# Altium footprint library PcbLib1.PcbLib: 42 footprints (part 2 of 3)
Each footprint in its own frame and in the unit in brackets; x right, y up, seen from the top. Pads: shape width x height; smd on the part's side, far side on the other; paste and mask are expansions set on the pad; w line width, h text height; cw(c..) or ccw(c..) is an arc to the next point about the centre after c.
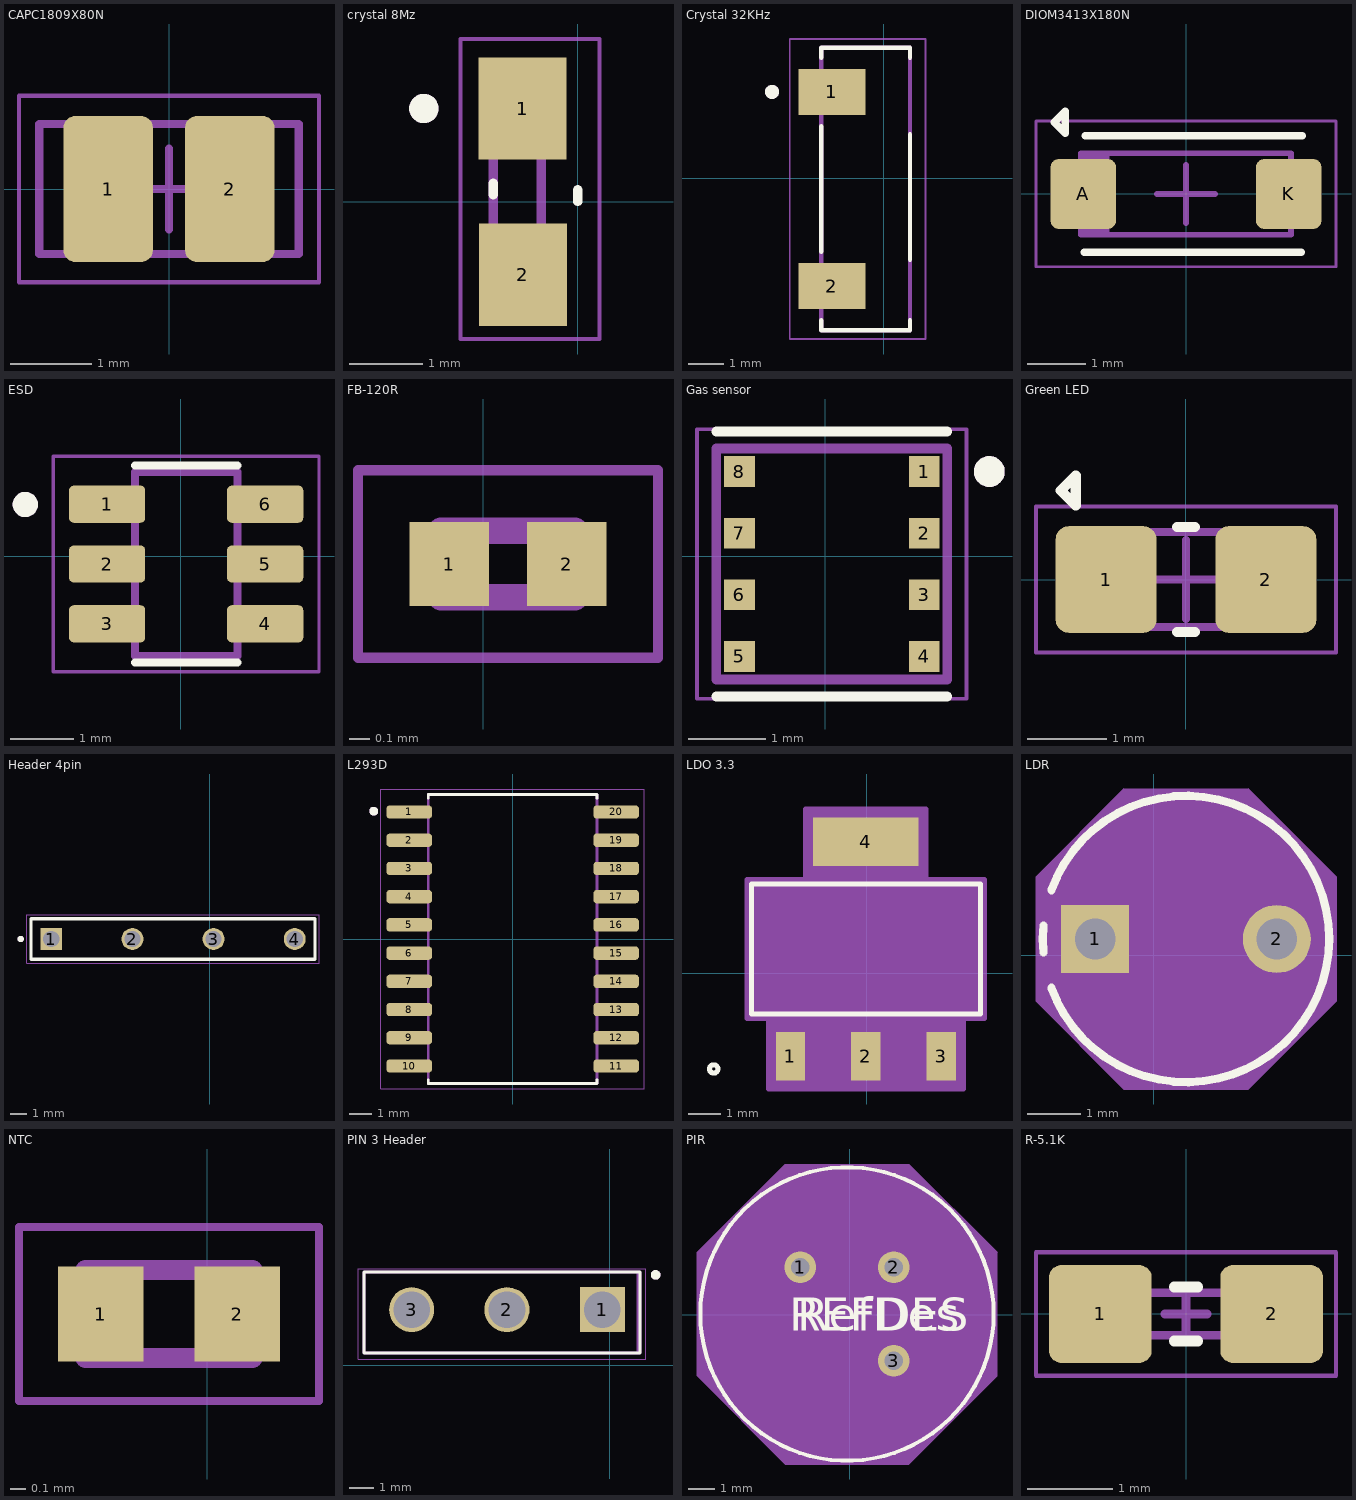
[diagram p1: the footprints below, top view; thin cyan lines are the x and y axes]

## CAPC1809X80N [mm] "Chip Capacitor, 2-Leads, Body 1.75x0.90mm, IPC Medium Density"
height 0.8
pads (2):
  rrect25% 1.1x1.8 smd: 1(-0.75,0) 2(0.75,0)
Top Assembly:
  lines w0.1: -1.6,-0.8 -1.6,0.8 1.6,0.8 1.6,-0.8 -1.6,-0.8
Top Designator:
  text ".Designator" at 0,0.188 h1
Top Courtyard:
  lines w0.05: -1.85,-1.15 -1.85,1.15 1.85,1.15 1.85,-1.15 -1.85,-1.15
Top Component Center:
  lines w0.1: -0.5,0 0.5,0 ; 0,-0.5 0,0.5
3D body: height 0.8, standoff 0, extent -0.025,-0.45 0.025,0.45
3D body: height 0.8, standoff 0, extent -0.875,-0.45 0.025,0.45
3D body: height 0.8, standoff 0, extent -0.025,-0.45 0.875,0.45

## crystal 8Mz [mm]
pads (2):
  rect 1.2x1.4 smd: 1(-0.753,1.271) 2(-0.75,-1)
Top Overlay:
  circle w0.2: c-2.103,1.271 r0.1
  lines w0.127: -1.153,0.091 -1.153,0.251 ; 0,0 0,0.16
Top Designator:
  text ".Designator" at -8.608,-0.337 h1.52
Top 3D Body:
  circle w0.2: c-2.103,1.271 r0.1
  lines w0.127: -1.153,-1.429 -1.153,1.771 -0.5,1.771 -0.5,-1.429 -1.153,-1.429
Top Courtyard:
  lines w0.05: -1.603,-1.879 0.297,-1.879 0.297,-0.854 0.297,1.196 0.297,2.221 -1.603,2.221 -1.603,-1.879
3D body: height 0.25, standoff 0, extent -1.5,-1.6 0,1.6

## Crystal 32KHz [mm]
pads (2):
  rect 1.9x1.3 smd paste+0 mask+0.102: 1(-1.46,2.445) 2(-1.46,-3.055)
Top Overlay:
  circle w0.2: c-3.16,2.445 r0.1
  lines w0.127: -1.76,-4.025 -1.76,-4.305 0.75,-4.305 0.75,-4.025 ; -1.76,-2.085 -1.76,1.475 ; -1.76,3.415 -1.76,3.695 0.75,3.695 0.75,3.415 ; 0.75,-2.31 0.75,1.25
Top Designator:
  text ".Designator" at -8.69,-0.813 h1.52
Top 3D Body:
  circle w0.2: c-3.16,2.445 r0.1
  lines w0.127: -1.76,-4.305 0.75,-4.305 0.75,3.695 -1.76,3.695 -1.76,-4.305
Top Courtyard:
  lines w0.05: -2.66,-4.555 1.19,-4.555 1.19,-2.43 1.19,1.82 1.19,3.945 -2.66,3.945 -2.66,-4.555
3D body: height 0.25, standoff 0, extent -1.71,-4.305 0.75,3.695

## DIOM3413X180N [mm] "Molded Diode, 2-Leads, Body 3.45x1.30mm, IPC Medium Density"
height 1.8
pads (2):
  rrect25% 1.125x1.2 smd: A(-1.763,0) K(1.762,0)
Top Overlay:
  lines w0.127: -1.75,-1 1.977,-1 ; -1.727,1 2,1 ; -2.262,1.23 -2.072,1.04 -2.072,1.42 -2.262,1.23
Top Assembly:
  rectangle: -1.8,-0.7 -1.316,0.7
  lines w0.1: -1.8,-0.7 1.8,-0.7 1.8,0.7 -1.8,0.7 -1.8,-0.7
Top Designator:
  text ".Designator" at 0,0.188 h1
Top Courtyard:
  lines w0.05: -2.575,-1.25 -0.988,-1.25 0.987,-1.25 2.575,-1.25 2.575,1.25 0.987,1.25 -0.987,1.25 -2.575,1.25 -2.575,-1.25
Top Component Center:
  lines w0.1: -0.5,0 0.5,0 ; 0,-0.5 0,0.5
3D body: height 1.8, standoff 0, extent -1.725,-0.65 1.725,0.65

## ESD [mm]
pads (6):
  rrect25% 1.21x0.59 smd: 1(-1.168,0.823) 2(-1.168,-0.127) 3(-1.168,-1.077) 4(1.342,-1.077) 5(1.342,-0.127) 6(1.342,0.823)
Top Overlay:
  circle w0.2: c-2.468,0.818 r0.1
  lines w0.127: -0.726,-1.692 0.9,-1.692 ; -0.726,1.438 0.9,1.438
Top Designator:
  text ".Designator" at -7.841,-0.635 h1.52
Top 3D Body:
  circle w0.2: c-2.468,0.818 r0.1
  lines w0.127: -0.726,-1.589 -0.726,1.335 0.9,1.335 0.9,-1.589 -0.726,-1.589
Top Courtyard:
  lines w0.05: -2.023,-1.84 2.197,-1.84 2.197,1.586 -2.023,1.586 -2.023,-1.84
3D body "step_temp.STEP": height 0.4, standoff -1.05, extent -1.313,-1.589 1.487,1.335

## FB-120R [mm]
pads (2):
  rect 0.38x0.4 smd: 1(-0.162,2.139) 2(0.4,2.139)
Top 3D Body:
  lines w0.127: -0.201,1.979 0.439,1.979 0.439,2.299 -0.201,2.299 -0.201,1.979
Top Courtyard:
  lines w0.05: -0.599,1.691 0.837,1.691 0.837,2.587 -0.599,2.587 -0.599,1.691
3D body "step_temp.STEP": height 0.33, standoff 0, extent -0.181,1.989 0.419,2.289

## Gas sensor [mm]
pads (8):
  rect 0.4x0.4 smd: 1(1.287,1.101) 2(1.287,0.301) 3(1.287,-0.499) 4(1.287,-1.299) 5(-1.113,-1.299) 6(-1.113,-0.499) 7(-1.113,0.301) 8(-1.113,1.101)
Top Overlay:
  circle w0.2: c2.132,1.101 r0.1
  lines w0.127: -1.413,-1.819 1.587,-1.819 ; -1.413,1.621 1.587,1.621
Top 3D Body:
  circle w0.2: c2.132,1.101 r0.1
  lines w0.127: -1.413,-1.599 -1.413,1.401 1.587,1.401 1.587,-1.599 -1.413,-1.599
Top Courtyard:
  lines w0.05: -1.663,-1.849 1.837,-1.849 1.837,1.651 -1.663,1.651 -1.663,-1.849
3D body "BME688--3DModel-STEP-56544.STEP": height 1, standoff 0, extent -1.413,-1.599 1.587,1.401

## Green LED [mm] "MELF Diode, 2-Leads, Body 2.25x1.10mm, IPC Medium Density"
height 1.2
pads (2):
  rrect25% 1.275x1.35 smd: 1(-1.012,0) 2(1.012,0)
Top Overlay:
  lines w0.127: -0.112,-0.664 0.112,-0.664 ; -0.112,0.663 0.112,0.663 ; -1.586,1.128 -1.396,1.318 -1.396,0.938 -1.586,1.128
Top Assembly:
  rectangle: -1.25,-0.6 -0.914,0.6
  lines w0.1: -1.25,-0.6 -1.25,0.6 1.25,0.6 1.25,-0.6 -1.25,-0.6
Top Designator:
  text ".Designator" at -7.618,-0.292 h1.52
Top Courtyard:
  lines w0.05: -1.9,-0.925 -1.9,0.925 1.9,0.925 1.9,-0.925 -1.9,-0.925
Top Component Center:
  lines w0.1: -0.5,0 0.5,0 ; 0,-0.5 0,0.5
3D body: height 1.2, standoff 0, extent -1.25,-0.6 -0.65,0.6
3D body: height 1.19, standoff 0.04, extent -0.05,-0.571 0.55,0.571
3D body: height 1.18, standoff 0.05, extent -0.65,-0.57 0.65,0.57
3D body: height 1.2, standoff 0, extent 0.65,-0.6 1.25,0.6

## Header 4pin [mm]
pads (4):
  rect 1.37x1.37 hole 1.02: 1(-9.911,-11.587)
  round 1.37 hole 1.02: 2(-4.831,-11.587) 3(0.249,-11.587) 4(5.329,-11.587)
Top Overlay:
  circle w0.2: c-11.831,-11.587 r0.1
  lines w0.2: -11.181,-12.857 6.599,-12.857 6.599,-10.317 -11.181,-10.317 -11.181,-12.857
Top 3D Body:
  circle w0.2: c-11.831,-11.587 r0.1
  lines w0.1: -11.181,-12.857 6.599,-12.857 6.599,-10.317 -11.181,-10.317 -11.181,-12.857
Top Courtyard:
  lines w0.05: -11.431,-13.107 6.849,-13.107 6.849,-10.067 -11.431,-10.067 -11.431,-13.107
3D body "TSW-204-07-S-S-LL.stp": height 8.38, standoff -2.54, extent -11.204,-12.75 6.703,-10.21

## L293D [mm]
pads (20):
  rrect50% 2.05x0.6 smd: 1(-4.656,5.727) 2(-4.656,4.457) 3(-4.656,3.187) 4(-4.656,1.917) 5(-4.656,0.647) 6(-4.656,-0.623) 7(-4.656,-1.893) 8(-4.656,-3.163) 9(-4.656,-4.433) 10(-4.656,-5.703) 11(4.654,-5.703) 12(4.654,-4.433) 13(4.654,-3.163) 14(4.654,-1.893) 15(4.654,-0.623) 16(4.654,0.647) 17(4.654,1.917) 18(4.654,3.187) 19(4.654,4.457) 20(4.654,5.727)
Top Overlay:
  circle w0.2: c-6.251,5.762 r0.1
  lines w0.127: -3.801,-6.318 -3.801,-6.488 3.799,-6.488 3.799,-6.318 ; -3.801,6.342 -3.801,6.512 3.799,6.512 3.799,6.342
Top 3D Body:
  circle w0.2: c-6.251,5.762 r0.1
  lines w0.127: -3.801,-6.488 -3.801,6.512 3.799,6.512 3.799,-6.488 -3.801,-6.488
Top Courtyard:
  lines w0.05: -5.931,-6.738 -5.931,6.762 5.929,6.762 5.929,-6.738 -5.931,-6.738
3D body "step_temp.STEP": height 2.65, standoff 0, extent -5.163,-6.388 5.161,6.412

## LDO 3.3 [mil]
pads (4):
  rect 35x58 smd paste+0 mask+0: 1(-91.57,-99.72) 2(-1.42,-99.72) 3(88.74,-99.72)
  rect 126x58 smd paste+0 mask+0: 4(-1.42,157.28)
Top Overlay:
  circle w6: c-183.42,-114.72 r5
  lines w6: -138.42,-49.22 135.58,-49.22 135.58,106.78 -138.42,106.78 -138.42,-49.22
  text ".Designator" at -127.95,49.21 h50
Top Designator:
  text ".Designator" at -213.65,8.79 h60
Top 3D Body:
  circle w1: c-123.42,-34.22 r5
  lines w1: -133.42,-44.22 130.58,-44.22 130.58,101.78 -133.42,101.78 -133.42,-44.22 ; -108.07,-114.72 -108.07,-44.22 -75.07,-44.22 -75.07,-114.72 -108.07,-114.72 ; -63.42,101.78 60.58,101.78 60.58,172.28 -63.42,172.28 -63.42,101.78 ; -17.92,-114.72 -17.92,-44.22 15.08,-44.22 15.08,-114.72 -17.92,-114.72 ; 72.24,-114.72 72.24,-44.22 105.24,-44.22 105.24,-114.72 72.24,-114.72
  text ".Designator" at -138.92,3.78 h50
Top Courtyard:
  region: -143.42,-54.22 -143.42,111.78 -73.42,111.78 -73.42,196.28 70.58,196.28 70.58,111.78 140.58,111.78 140.58,-54.22 115.24,-54.22 115.24,-138.72 -118.07,-138.72 -118.07,-54.22
  lines w6: -143.42,-54.22 -143.42,111.78 -73.42,111.78 -73.42,196.28 70.58,196.28 70.58,111.78 140.58,111.78 140.58,-54.22 115.24,-54.22 115.24,-138.72 -118.07,-138.72 -118.07,-54.22 -143.42,-54.22
3D body "SOT_AMS1117-25_AMS.step": height 71.1, standoff 0, extent -133.43,-114.72 130.59,172.28

## LDR [mm]
pads (2):
  rect 1.27x1.27 hole 0.762 paste-2539.97 mask+0: 1(-1.095,0.302)
  round 1.27 hole 0.762 paste-2539.97 mask+0: 2(2.305,0.302)
Top Overlay:
  lines w0.152: -2.063,0.049 cw(c0.605,0.302) -2.063,0.555 ; -1.915,-0.61 ccw(c0.605,0.302) 3.285,0.302 ccw(c0.605,0.302) -1.915,1.214
  text ".Designator" at -2.887,-0.333 h1.27
Top 3D Body:
  circle w0.025: c0.605,0.302 r2.553
  text ".Designator" at -2.887,-0.333 h1.27
Top Courtyard:
  region: -2.202,1.458 -0.551,3.109 1.761,3.109 3.412,1.458 3.412,-0.854 1.761,-2.505 -0.551,-2.505 -2.202,-0.854
  lines w0.025: -0.551,3.109 -2.202,1.458 -2.202,-0.854 -0.551,-2.505 1.761,-2.505 3.412,-0.854 3.412,1.458 1.761,3.109
3D body "02LDR3_NTE.step": height 2.4, standoff -4.06, extent -1.948,-2.251 3.188,2.855

## NTC [mm]
pads (2):
  rect 0.54x0.6 smd: 1(-0.674,1.766) 2(0.19,1.766)
Top 3D Body:
  lines w0.127: -0.772,1.486 0.288,1.486 0.288,2.046 -0.772,2.046 -0.772,1.486
Top Courtyard:
  lines w0.05: -1.192,1.216 0.708,1.216 0.708,2.316 -1.192,2.316 -1.192,1.216
3D body "step_temp.STEP": height 0.55, standoff 0, extent -0.742,1.516 0.258,2.016

## PIN 3 Header [mm]
pads (3):
  rect 1.87x1.87 / inner round 1.87 / far side rect 1.87x1.87 hole 1.52 mask+0.102: 1(-0.315,2.306)
  round 1.87 hole 1.52 mask+0.102: 2(-4.275,2.306) 3(-8.235,2.306)
Top Overlay:
  circle w0.2: c1.9,3.75 r0.1
  lines w0.127: -10.215,3.856 -10.215,0.506 1.25,0.506 1.25,3.876 -10.215,3.876
Top Designator:
  text ".Designator" at -11.813,1.617 h1.52
Top 3D Body:
  circle w0.2: c1.9,3.75 r0.1
  lines w0.127: -1.305,0.5 1.25,0.5 1.25,3.876 ; -1.305,0.506 -7.245,0.506 -10.215,0.506 ; 1.165,0.506 1.165,1.343 1.165,3.019 1.165,3.856 ; -10.215,0.506 -10.215,3.856 -10.215,0.506 ; 1.25,3.876 -10.215,3.876 1.25,3.876
Top Courtyard:
  lines w0.05: -10.465,0.25 -10.465,4 1.5,4 1.5,0.25 -10.465,0.25
3D body "4PinHeader.step": height 6.5, standoff -2.5, extent -9.5,1 0.66,3.54

## PIR [mil]
pads (3):
  round 48 / inner round 60 / far side round 48 hole 28 paste-99999 mask+0: 1(-74.88,72.05) 2(66.54,72.05) 3(66.54,-69.37)
Top Overlay:
  circle w6: c-4.17,1.34 r221.5
  text "RefDes" at -79.17,-23.66 h50
  text "REFDES" at -91.67,-23.66 h50
Top 3D Body:
  circle w0: c-4.17,1.34 r216.5
  text "RefDes2" at -91.67,-23.66 h50
Top Courtyard:
  region: -230.67,94.6 -97.44,227.84 89.09,227.84 222.33,94.6 222.33,-91.93 89.09,-225.16 -97.44,-225.16 -230.67,-91.93
  lines w1: -230.67,-91.93 -97.44,-225.16 89.09,-225.16 222.33,-91.93 222.33,94.6 89.09,227.84 -97.44,227.84 -230.67,94.6 -230.67,-91.93
3D body "EKMC1601111_PAN.step": height 567.01, standoff -150, extent -220.67,-215.04 211.84,217.72

## R-5.1K [mm] "Chip Resistor, 2-Leads, Body 0.53x0.28mm, IPC Medium Density"
height 0.45
pads (2):
  rrect25% 1.2x1.14 smd: 1(-1,0) 2(1,0)
Top Overlay:
  lines w0.127: -0.136,-0.314 0.136,-0.314 ; -0.136,0.313 0.136,0.313
Top Assembly:
  lines w0.1: -0.5,-0.25 -0.5,0.25 0.5,0.25 0.5,-0.25 -0.5,-0.25
Top Designator:
  text ".Designator" at -7.618,-0.508 h1.52
Top Courtyard:
  lines w0.05: -1.75,-0.72 -1.75,0.72 1.75,0.72 1.75,-0.72 -1.75,-0.72
Top Component Center:
  lines w0.1: -0.25,0 0.25,0 ; 0,-0.25 0,0.25
3D body: height 0.45, standoff 0, extent -0.113,-0.138 0.112,0.137
3D body: height 0.45, standoff 0, extent -0.263,-0.138 -0.113,0.137
3D body: height 0.45, standoff 0, extent 0.112,-0.138 0.262,0.137